# EAGLE library part BNO055 (library scono)
https://www.digikey.com/product-detail/en/bosch-sensortec/BNO055/828-1058-1-ND/6136309
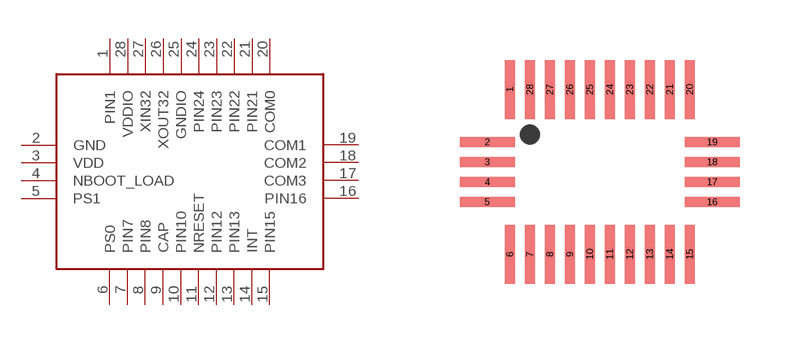
[diagram p23: symbol with the pads of BNO055; footprint BNO055]

Designator prefix IC

## BNO055  [BNO055]
1  PIN1
2  GND
3  VDD
4  NBOOT_LOAD
5  PS1
6  PS0
7  PIN7
8  PIN8
9  CAP
10  PIN10
11  NRESET
12  PIN12
13  PIN13
14  INT
15  PIN15
16  PIN16
17  COM3
18  COM2
19  COM1
20  COM0
21  PIN21
22  PIN22
23  PIN23
24  PIN24
25  GNDIO
26  XOUT32
27  XIN32
28  VDDIO

## Footprint BNO055 (pad centres in mm)
https://www.digikey.com/product-detail/en/bosch-sensortec/BNO055/828-1058-1-ND/6136309
smd 0.255 x 1.48: 1 0,3.625; 6 0,-0.5; 7 0.5,-0.5; 8 1,-0.5; 9 1.5,-0.5; 10 2,-0.5; 11 2.5,-0.5; 12 3,-0.5; 13 3.5,-0.5; 14 4,-0.5; 15 4.5,-0.5; 20 4.5,3.625; 21 4,3.625; 22 3.5,3.625; 23 3,3.625; 24 2.5,3.625; 25 2,3.625; 26 1.5,3.625; 27 1,3.625; 28 0.5,3.625
smd 1.38 x 0.255: 2 -0.562,2.312; 3 -0.562,1.812; 4 -0.562,1.312; 5 -0.562,0.812; 16 5.062,0.812; 17 5.062,1.312; 18 5.062,1.812; 19 5.062,2.312